# Altium footprint library myRLC.PcbLib: 39 footprints (part 3 of 3)
Each footprint in its own frame and in the unit in brackets; x right, y up, seen from the top. Pads: shape width x height; smd on the part's side, far side on the other; paste and mask are expansions set on the pad; w line width, h text height; cw(c..) or ccw(c..) is an arc to the next point about the centre after c.
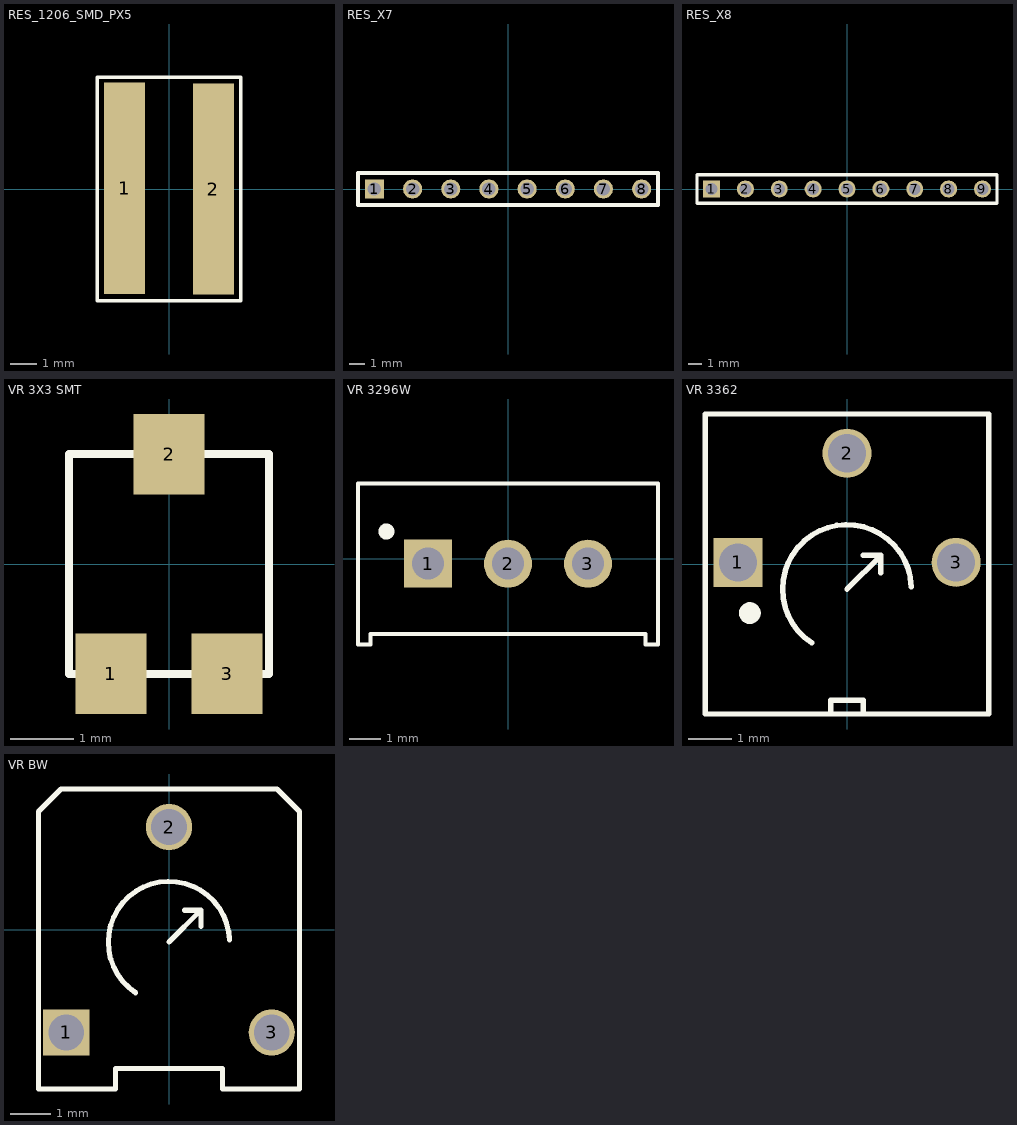
[diagram p2: the footprints below, top view; thin cyan lines are the x and y axes]

## RES_1206_SMD_PX5 [mil]
height 30
pads (2):
  rect 60x310 smd: 1(-65,1) 2(65,0)
Top Overlay:
  lines w5: -105,-164 -105,164 105,164 105,-164 -105,-164
3D body: height 30, standoff 0, extent -105,-164 105,164

## RES_X7 [mil]
height 220
pads (8):
  rect 50x50 hole 35: 1(-350,0)
  round 50 hole 35: 2(-250,0) 3(-150,0) 4(-50,0) 5(50,0) 6(150,0) 7(250,0) 8(350,0)
Top Overlay:
  lines w10: -393,-42 -393,42 393,42 393,-42 -393,-42
3D body: height 220, standoff 0, extent -390,-40 390,40

## RES_X8 [mil]
height 220
pads (9):
  rect 50x50 hole 35: 1(-400,0)
  round 50 hole 35: 2(-300,0) 3(-200,0) 4(-100,0) 5(0,0) 6(100,0) 7(200,0) 8(300,0) 9(400,0)
Top Overlay:
  lines w10: -443,-42 443,-42 443,42 -443,42 -443,-42
3D body: height 220, standoff 0, extent -440,-40 440,40

## VR 3X3 SMT [mil]
height 63
pads (3):
  rect 44x50 smd: 1(-36,-68) 2(0,68) 3(36,-68)
Top Overlay:
  lines w5: -62,-68.25 -62,68.25 62,68.25 62,-68.25 -62,-68.25
3D body: height 63, standoff 0, extent -63,-69 63,69

## VR 3296W [mil]
height 400
pads (3):
  rect 60x60 hole 40: 1(-100,-6.24)
  round 60 hole 40: 2(0,-6.24) 3(100,-6.24)
Top Overlay:
  circle w10: c-152,34 r5
  lines w5: -187.5,-94.24 -187.5,-107 -172,-107 -172,-94.24 172,-94.24 172,-107 187.5,-107 187.5,-94.24 ; -187.5,-93.76 -187.5,93.76 187.5,93.76 187.5,-93.76
3D body: height 400, standoff 0, extent -188,-108 187,94

## VR 3362 [mil]
height 185
pads (3):
  rect 45x45 hole 35: 1(-100,1.5)
  round 45 hole 35: 2(0,101.5) 3(100,1.5)
Top Overlay:
  circle w10: c-89,-45 r5
  lines w5: -32.46,-72.34 cw(c0,-23) 59.02,-20.93 ; -15,-137.5 -15,-125 15,-125 15,-137.5 ; 0,-23 31,8 ; 15,8 31,8 ; 31,-8 31,8 ; 129,-137.5 -130,-137.5 -130,137.5 130,137.5 130,-137.5
3D body: height 185, standoff 0, extent -131,-139 130,138

## VR BW [mil]
height 245
pads (3):
  rect 45x45 hole 35: 1(-100,-100)
  round 45 hole 35: 2(0,100) 3(100,-100)
Top Overlay:
  lines w5: -32.46,-61.34 cw(c0,-12) 59.02,-9.93 ; 0,-12 31,19 ; 15,19 31,19 ; 31,3 31,19 ; -127,-155 -127,-135 -127,115 -105,137 105,137 127,115 127,-155 52,-155 52,-135 -52,-135 -52,-155 -127,-155
3D body: height 245, standoff 0, extent -128,-155 128,137